# Altium schematic symbol library moduls.SchLib: 9 symbols
Pins are listed as number, name and electrical type; pins without a type are passive.

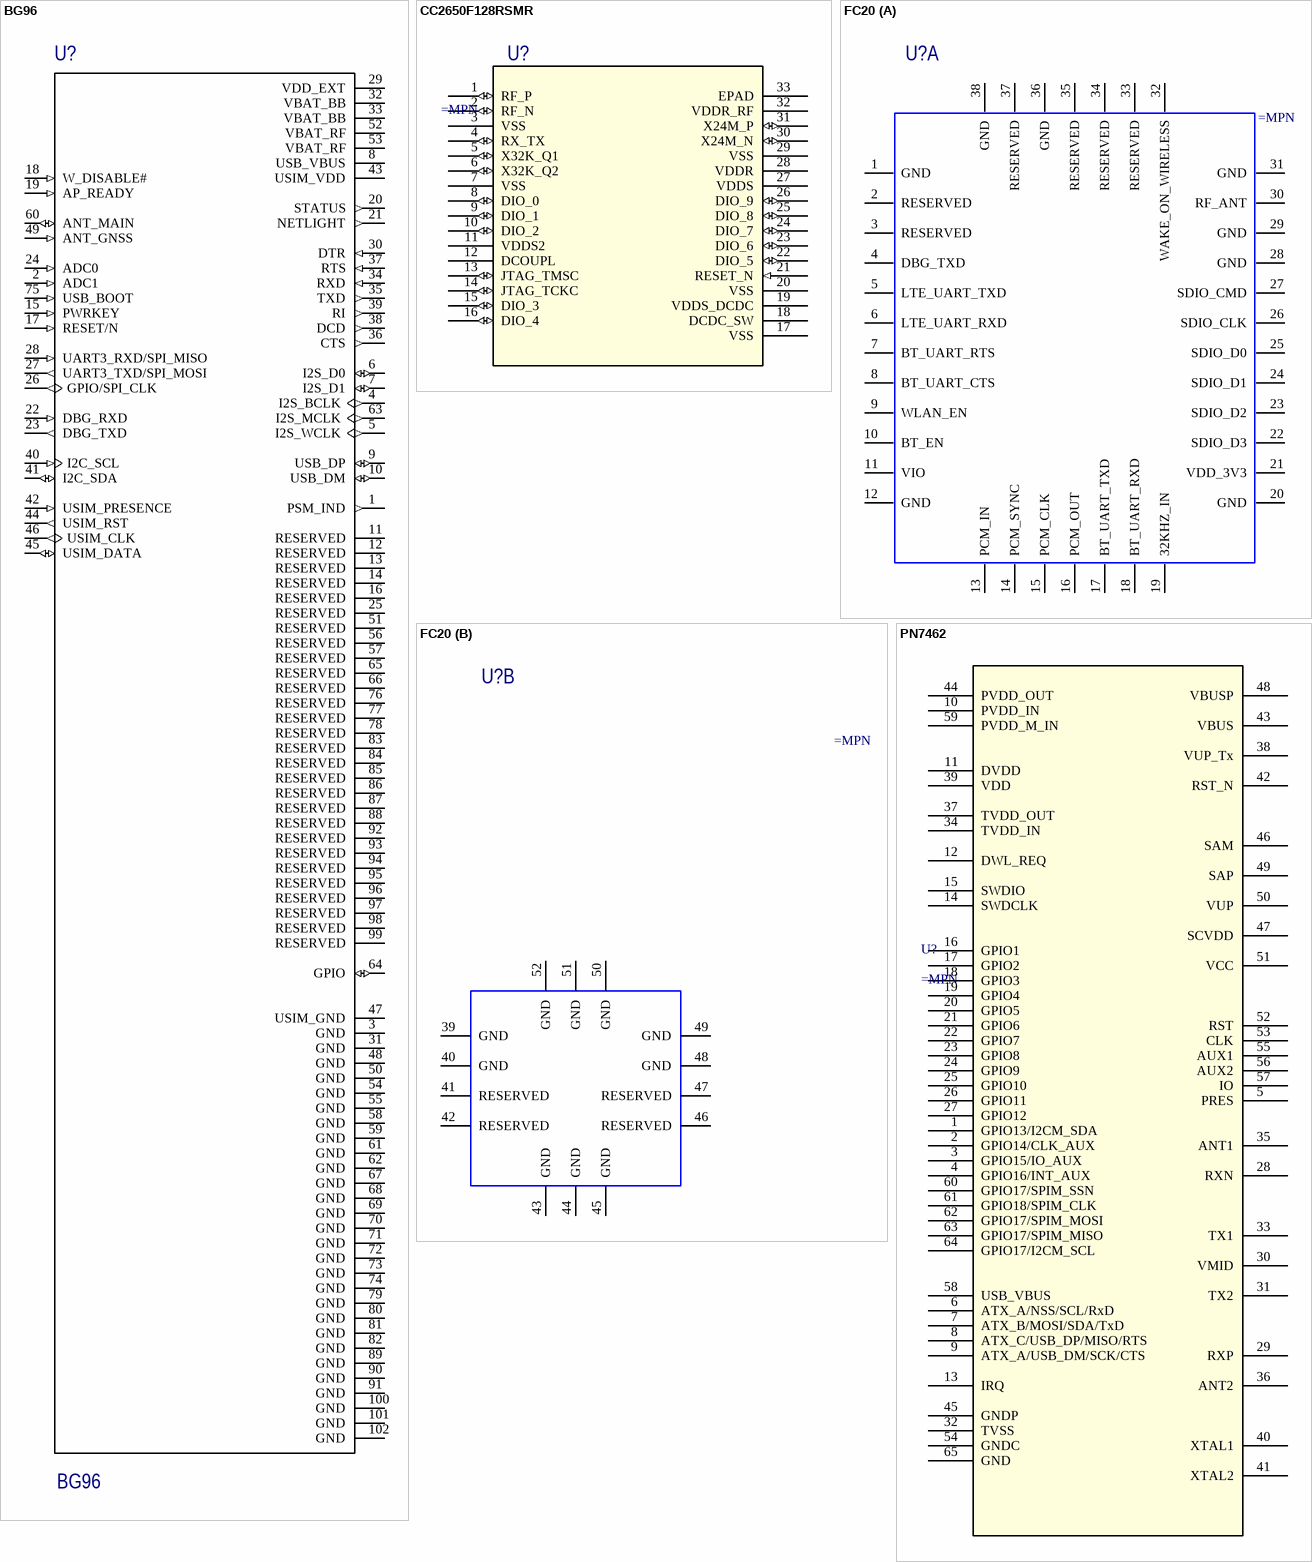
[diagram p0: symbols BG96 to PN7462]

## BG96
designator U?
Lte Cat.M1 Module For Global Sku
pins: 1 PSM_IND (out), 2 ADC1 (in), 3 GND (power), 4 I2S_BCLK (out), 5 I2S_WCLK (out), 6 I2S_D0 (io), 7 I2S_D1 (io), 8 USB_VBUS (power), 9 USB_DP (io), 10 USB_DM (io), 11 RESERVED, 12 RESERVED, 13 RESERVED, 14 RESERVED, 15 PWRKEY (in), 16 RESERVED, 17 RESET/N (in), 18 W_DISABLE# (in), 19 AP_READY (in), 20 STATUS (out), 21 NETLIGHT (out), 22 DBG_RXD (in), 23 DBG_TXD (out), 24 ADC0 (in), 25 RESERVED, 26 GPIO/SPI_CLK (out), 27 UART3_TXD/SPI_MOSI (out), 28 UART3_RXD/SPI_MISO (in), 29 VDD_EXT (power), 30 DTR (in), 31 GND (power), 32 VBAT_BB (power), 33 VBAT_BB (power), 34 RXD (in), 35 TXD (out), 36 CTS (out), 37 RTS (in), 38 DCD (out), 39 RI (out), 40 I2C_SCL (in), 41 I2C_SDA (io), 42 USIM_PRESENCE (in), 43 USIM_VDD (power), 44 USIM_RST (out), 45 USIM_DATA (io), 46 USIM_CLK (out), 47 USIM_GND (power), 48 GND (power), 49 ANT_GNSS (in), 50 GND (power), 51 RESERVED, 52 VBAT_RF (power), 53 VBAT_RF (power), 54 GND (power), 55 GND (power), 56 RESERVED, 57 RESERVED, 58 GND (power), 59 GND (power), 60 ANT_MAIN (io), 61 GND (power), 62 GND (power), 63 I2S_MCLK (out), 64 GPIO (io), 65 RESERVED, 66 RESERVED, 67 GND (power), 68 GND (power), 69 GND (power), 70 GND (power), 71 GND (power), 72 GND (power), 73 GND (power), 74 GND (power), 75 USB_BOOT (in), 76 RESERVED, 77 RESERVED, 78 RESERVED, 79 GND (power), 80 GND (power), 81 GND (power), 82 GND (power), 83 RESERVED, 84 RESERVED, 85 RESERVED, 86 RESERVED, 87 RESERVED, 88 RESERVED, 89 GND (power), 90 GND (power), 91 GND (power), 92 RESERVED, 93 RESERVED, 94 RESERVED, 95 RESERVED, 96 RESERVED, 97 RESERVED, 98 RESERVED, 99 RESERVED, 100 GND (power), 101 GND (power), 102 GND (power)

## CC2650F128RSMR
designator U?
Imported
pins: 1 RF_P (io), 2 RF_N (io), 3 VSS (power), 4 RX_TX (io), 5 X32K_Q1 (io), 6 X32K_Q2 (io), 7 VSS (power), 8 DIO_0 (io), 9 DIO_1 (io), 10 DIO_2 (io), 11 VDDS2 (power), 12 DCOUPL (power), 13 JTAG_TMSC (io), 14 JTAG_TCKC (io), 15 DIO_3 (io), 16 DIO_4 (io), 17 VSS (power), 18 DCDC_SW (power), 19 VDDS_DCDC (power), 20 VSS (power), 21 RESET_N (in), 22 DIO_5 (io), 23 DIO_6 (io), 24 DIO_7 (io), 25 DIO_8 (io), 26 DIO_9 (io), 27 VDDS (power), 28 VDDR (power), 29 VSS (power), 30 X24M_N (io), 31 X24M_P (io), 32 VDDR_RF (power), 33 EPAD

## FC20
designator U?
part A pins: 1 GND, 2 RESERVED, 3 RESERVED, 4 DBG_TXD, 5 LTE_UART_TXD, 6 LTE_UART_RXD, 7 BT_UART_RTS, 8 BT_UART_CTS, 9 WLAN_EN, 10 BT_EN, 11 VIO, 12 GND, 13 PCM_IN, 14 PCM_SYNC, 15 PCM_CLK, 16 PCM_OUT, 17 BT_UART_TXD, 18 BT_UART_RXD, 19 32KHZ_IN, 20 GND, 21 VDD_3V3, 22 SDIO_D3, 23 SDIO_D2, 24 SDIO_D1, 25 SDIO_D0, 26 SDIO_CLK, 27 SDIO_CMD, 28 GND, 29 GND, 30 RF_ANT, 31 GND, 32 WAKE_ON_WIRELESS, 33 RESERVED, 34 RESERVED, 35 RESERVED, 36 GND, 37 RESERVED, 38 GND
part B pins: 39 GND, 40 GND, 41 RESERVED, 42 RESERVED, 43 GND, 44 GND, 45 GND, 46 RESERVED, 47 RESERVED, 48 GND, 49 GND, 50 GND, 51 GND, 52 GND
2 alternate drawings of the same symbol

## PN7462
designator U?
Imported
pins: 1 GPIO13/I2CM_SDA, 2 GPIO14/CLK_AUX, 3 GPIO15/IO_AUX, 4 GPIO16/INT_AUX, 5 PRES, 6 ATX_A/NSS/SCL/RxD, 7 ATX_B/MOSI/SDA/TxD, 8 ATX_C/USB_DP/MISO/RTS, 9 ATX_A/USB_DM/SCK/CTS, 10 PVDD_IN, 11 DVDD, 12 DWL_REQ, 13 IRQ, 14 SWDCLK, 15 SWDIO, 16 GPIO1, 17 GPIO2, 18 GPIO3, 19 GPIO4, 20 GPIO5, 21 GPIO6, 22 GPIO7, 23 GPIO8, 24 GPIO9, 25 GPIO10, 26 GPIO11, 27 GPIO12, 28 RXN, 29 RXP, 30 VMID, 31 TX2, 32 TVSS, 33 TX1, 34 TVDD_IN, 35 ANT1, 36 ANT2, 37 TVDD_OUT, 38 VUP_Tx, 39 VDD, 40 XTAL1, 41 XTAL2, 42 RST_N, 43 VBUS, 44 PVDD_OUT, 45 GNDP, 46 SAM, 47 SCVDD, 48 VBUSP, 49 SAP, 50 VUP, 51 VCC, 52 RST, 53 CLK, 54 GNDC, 55 AUX1, 56 AUX2, 57 IO, 58 USB_VBUS, 59 PVDD_M_IN, 60 GPIO17/SPIM_SSN, 61 GPIO18/SPIM_CLK, 62 GPIO17/SPIM_MOSI, 63 GPIO17/SPIM_MISO, 64 GPIO17/I2CM_SCL, 65 GND

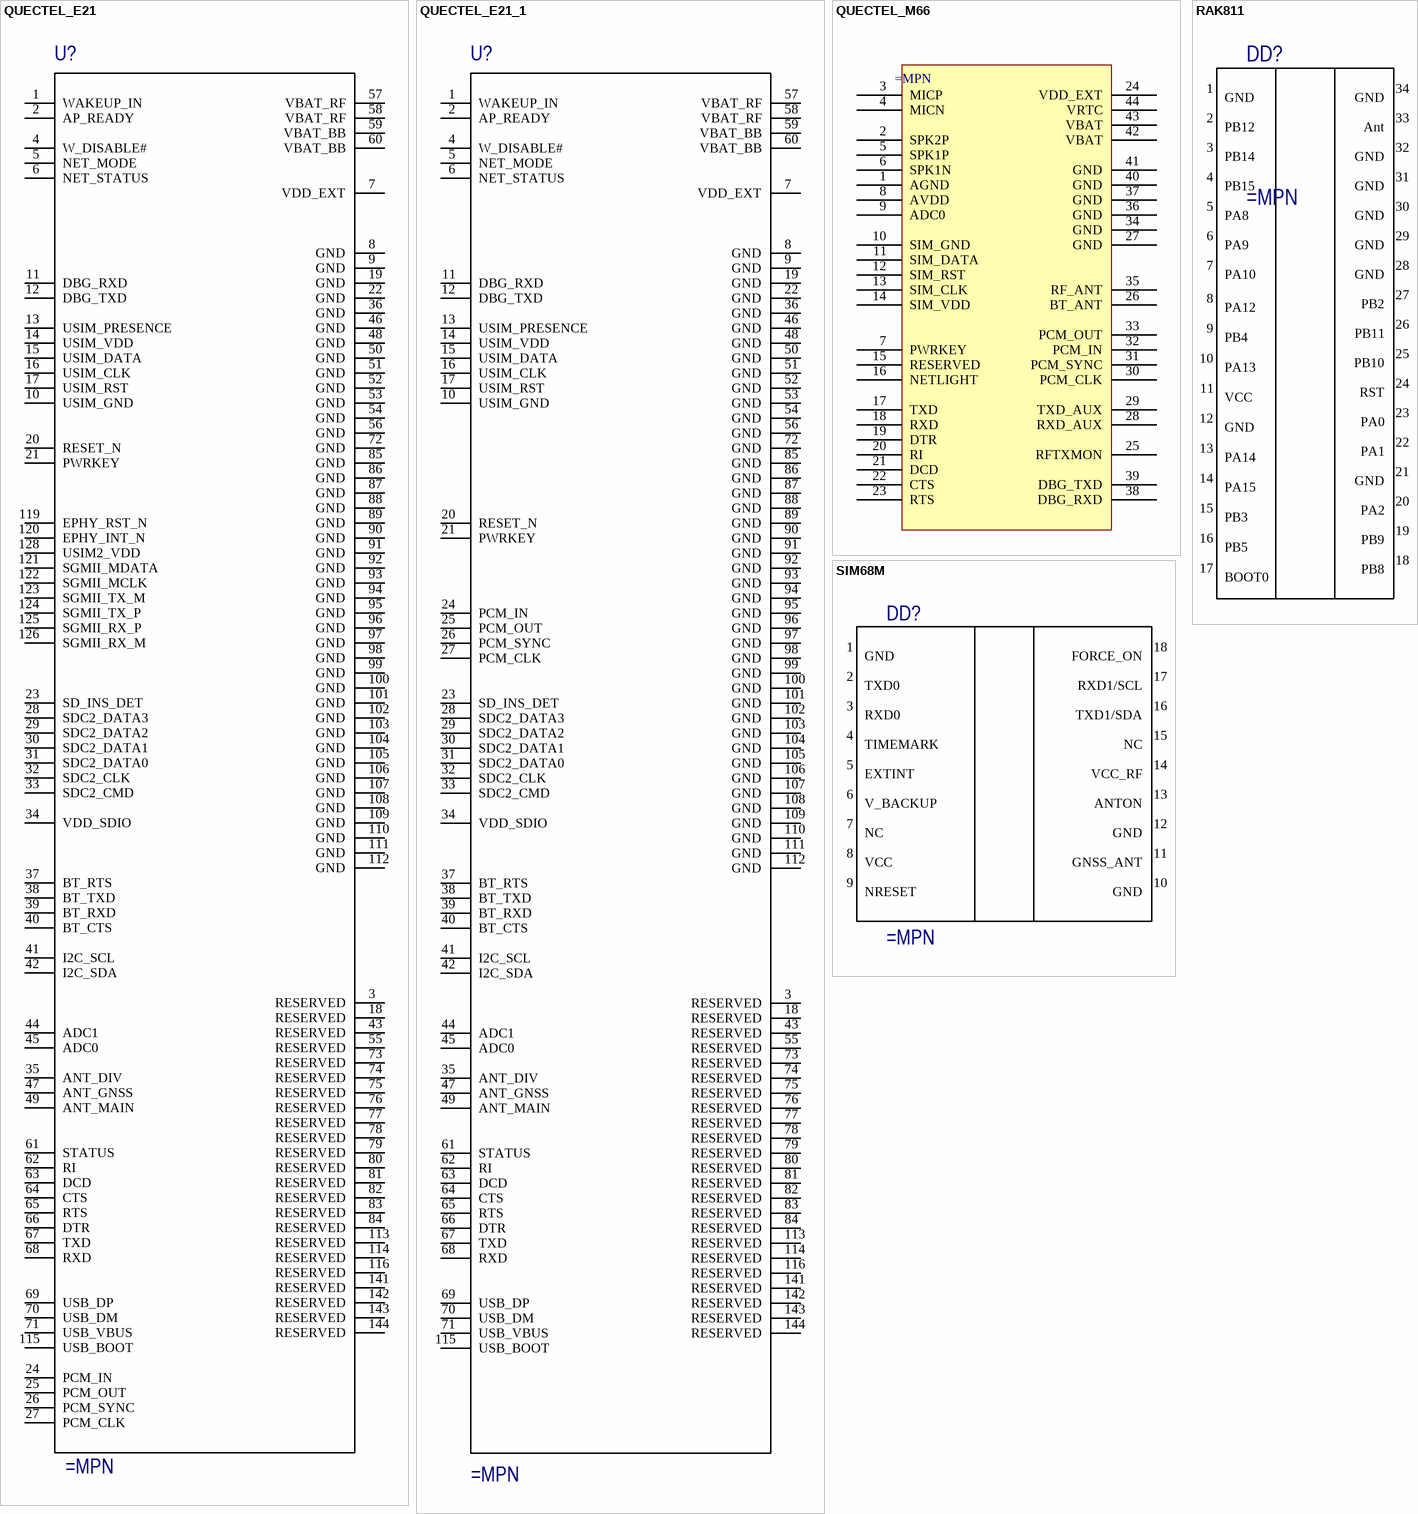
[diagram p1: symbols QUECTEL_E21 to SIM68M]

## QUECTEL_E21
designator U?
Lte Cat.M1 Module For Global Sku
pins: 1 WAKEUP_IN, 2 AP_READY, 3 RESERVED, 4 W_DISABLE#, 5 NET_MODE, 6 NET_STATUS, 7 VDD_EXT, 8 GND, 9 GND, 10 USIM_GND, 11 DBG_RXD, 12 DBG_TXD, 13 USIM_PRESENCE, 14 USIM_VDD, 15 USIM_DATA, 16 USIM_CLK, 17 USIM_RST, 18 RESERVED, 19 GND, 20 RESET_N, 21 PWRKEY, 22 GND, 23 SD_INS_DET, 24 PCM_IN, 25 PCM_OUT, 26 PCM_SYNC, 27 PCM_CLK, 28 SDC2_DATA3, 29 SDC2_DATA2, 30 SDC2_DATA1, 31 SDC2_DATA0, 32 SDC2_CLK, 33 SDC2_CMD, 34 VDD_SDIO, 35 ANT_DIV, 36 GND, 37 BT_RTS, 38 BT_TXD, 39 BT_RXD, 40 BT_CTS, 41 I2C_SCL, 42 I2C_SDA, 43 RESERVED, 44 ADC1, 45 ADC0, 46 GND, 47 ANT_GNSS, 48 GND, 49 ANT_MAIN, 50 GND, 51 GND, 52 GND, 53 GND, 54 GND, 55 RESERVED, 56 GND, 57 VBAT_RF, 58 VBAT_RF, 59 VBAT_BB, 60 VBAT_BB, 61 STATUS, 62 RI, 63 DCD, 64 CTS, 65 RTS, 66 DTR, 67 TXD, 68 RXD, 69 USB_DP, 70 USB_DM, 71 USB_VBUS, 72 GND, 73 RESERVED, 74 RESERVED, 75 RESERVED, 76 RESERVED, 77 RESERVED, 78 RESERVED, 79 RESERVED, 80 RESERVED, 81 RESERVED, 82 RESERVED, 83 RESERVED, 84 RESERVED, 85 GND, 86 GND, 87 GND, 88 GND, 89 GND, 90 GND, 91 GND, 92 GND, 93 GND, 94 GND, 95 GND, 96 GND, 97 GND, 98 GND, 99 GND, 100 GND, 101 GND, 102 GND, 103 GND, 104 GND, 105 GND, 106 GND, 107 GND, 108 GND, 109 GND, 110 GND, 111 GND, 112 GND, 113 RESERVED, 114 RESERVED, 115 USB_BOOT, 116 RESERVED, 119 EPHY_RST_N, 120 EPHY_INT_N, 121 SGMII_MDATA, 122 SGMII_MCLK, 123 SGMII_TX_M, 124 SGMII_TX_P, 125 SGMII_RX_P, 126 SGMII_RX_M, 128 USIM2_VDD, 141 RESERVED, 142 RESERVED, 143 RESERVED, 144 RESERVED

## QUECTEL_E21_1
designator U?
Lte Cat.M1 Module For Global Sku
pins: 1 WAKEUP_IN, 2 AP_READY, 3 RESERVED, 4 W_DISABLE#, 5 NET_MODE, 6 NET_STATUS, 7 VDD_EXT, 8 GND, 9 GND, 10 USIM_GND, 11 DBG_RXD, 12 DBG_TXD, 13 USIM_PRESENCE, 14 USIM_VDD, 15 USIM_DATA, 16 USIM_CLK, 17 USIM_RST, 18 RESERVED, 19 GND, 20 RESET_N, 21 PWRKEY, 22 GND, 23 SD_INS_DET, 24 PCM_IN, 25 PCM_OUT, 26 PCM_SYNC, 27 PCM_CLK, 28 SDC2_DATA3, 29 SDC2_DATA2, 30 SDC2_DATA1, 31 SDC2_DATA0, 32 SDC2_CLK, 33 SDC2_CMD, 34 VDD_SDIO, 35 ANT_DIV, 36 GND, 37 BT_RTS, 38 BT_TXD, 39 BT_RXD, 40 BT_CTS, 41 I2C_SCL, 42 I2C_SDA, 43 RESERVED, 44 ADC1, 45 ADC0, 46 GND, 47 ANT_GNSS, 48 GND, 49 ANT_MAIN, 50 GND, 51 GND, 52 GND, 53 GND, 54 GND, 55 RESERVED, 56 GND, 57 VBAT_RF, 58 VBAT_RF, 59 VBAT_BB, 60 VBAT_BB, 61 STATUS, 62 RI, 63 DCD, 64 CTS, 65 RTS, 66 DTR, 67 TXD, 68 RXD, 69 USB_DP, 70 USB_DM, 71 USB_VBUS, 72 GND, 73 RESERVED, 74 RESERVED, 75 RESERVED, 76 RESERVED, 77 RESERVED, 78 RESERVED, 79 RESERVED, 80 RESERVED, 81 RESERVED, 82 RESERVED, 83 RESERVED, 84 RESERVED, 85 GND, 86 GND, 87 GND, 88 GND, 89 GND, 90 GND, 91 GND, 92 GND, 93 GND, 94 GND, 95 GND, 96 GND, 97 GND, 98 GND, 99 GND, 100 GND, 101 GND, 102 GND, 103 GND, 104 GND, 105 GND, 106 GND, 107 GND, 108 GND, 109 GND, 110 GND, 111 GND, 112 GND, 113 RESERVED, 114 RESERVED, 115 USB_BOOT, 116 RESERVED, 141 RESERVED, 142 RESERVED, 143 RESERVED, 144 RESERVED

## QUECTEL_M66
designator ?
footprint M66 (QUECTEL M66, QFN, 44-Leads, IPC Medium Density)
pins: 1 AGND, 2 SPK2P, 3 MICP, 4 MICN, 5 SPK1P, 6 SPK1N, 7 PWRKEY, 8 AVDD, 9 ADC0, 10 SIM_GND, 11 SIM_DATA, 12 SIM_RST, 13 SIM_CLK, 14 SIM_VDD, 15 RESERVED, 16 NETLIGHT, 17 TXD, 18 RXD, 19 DTR, 20 RI, 21 DCD, 22 CTS, 23 RTS, 24 VDD_EXT, 25 RFTXMON, 26 BT_ANT, 27 GND, 28 RXD_AUX, 29 TXD_AUX, 30 PCM_CLK, 31 PCM_SYNC, 32 PCM_IN, 33 PCM_OUT, 34 GND, 35 RF_ANT, 36 GND, 37 GND, 38 DBG_RXD, 39 DBG_TXD, 40 GND, 41 GND, 42 VBAT, 43 VBAT, 44 VRTC

## RAK811
designator DD?
pins: 1 GND "Noninverting input", 2 PB12 "Noninverting input", 3 PB14 "Noninverting input", 4 PB15 "Noninverting input", 5 PA8 "Noninverting input", 6 PA9 "Noninverting input", 7 PA10 "Noninverting input", 8 PA12 "Positive (highest) power supply", 9 PB4 "Positive (highest) power supply", 10 PA13 "Positive (highest) power supply", 11 VCC "Positive (highest) power supply", 12 GND "Positive (highest) power supply", 13 PA14 "Positive (highest) power supply", 14 PA15 "Positive (highest) power supply", 15 PB3 "Positive (highest) power supply", 16 PB5 "Positive (highest) power supply", 17 BOOT0 "Positive (highest) power supply", 18 PB8 "Positive (highest) power supply", 19 PB9 "Positive (highest) power supply", 20 PA2 "Positive (highest) power supply", 21 GND "Positive (highest) power supply", 22 PA1 "Positive (highest) power supply", 23 PA0 "Positive (highest) power supply", 24 RST "Positive (highest) power supply", 25 PB10 "Positive (highest) power supply", 26 PB11 "Positive (highest) power supply", 27 PB2 "Positive (highest) power supply", 28 GND "Positive (highest) power supply", 29 GND "Positive (highest) power supply", 30 GND "Positive (highest) power supply", 31 GND "Positive (highest) power supply", 32 GND "Positive (highest) power supply", 33 Ant "Positive (highest) power supply", 34 GND "Positive (highest) power supply"

## SIM68M
designator DD?
pins: 1 GND "Noninverting input", 2 TXD0 "Noninverting input", 3 RXD0 "Noninverting input", 4 TIMEMARK "Noninverting input", 5 EXTINT "Noninverting input", 6 V_BACKUP "Noninverting input", 7 NC "Noninverting input", 8 VCC "Positive (highest) power supply", 9 NRESET "Positive (highest) power supply", 10 GND "Positive (highest) power supply", 11 GNSS_ANT "Positive (highest) power supply", 12 GND "Positive (highest) power supply", 13 ANTON "Positive (highest) power supply", 14 VCC_RF "Positive (highest) power supply", 15 NC "Positive (highest) power supply", 16 TXD1/SDA "Positive (highest) power supply", 17 RXD1/SCL "Positive (highest) power supply", 18 FORCE_ON "Positive (highest) power supply"